# Altium footprint library TIDA-014851.PcbLib: 32 footprints (part 1 of 2)
Each footprint in its own frame and in the unit in brackets; x right, y up, seen from the top. Pads: shape width x height; smd on the part's side, far side on the other; paste and mask are expansions set on the pad; w line width, h text height; cw(c..) or ccw(c..) is an arc to the next point about the centre after c.
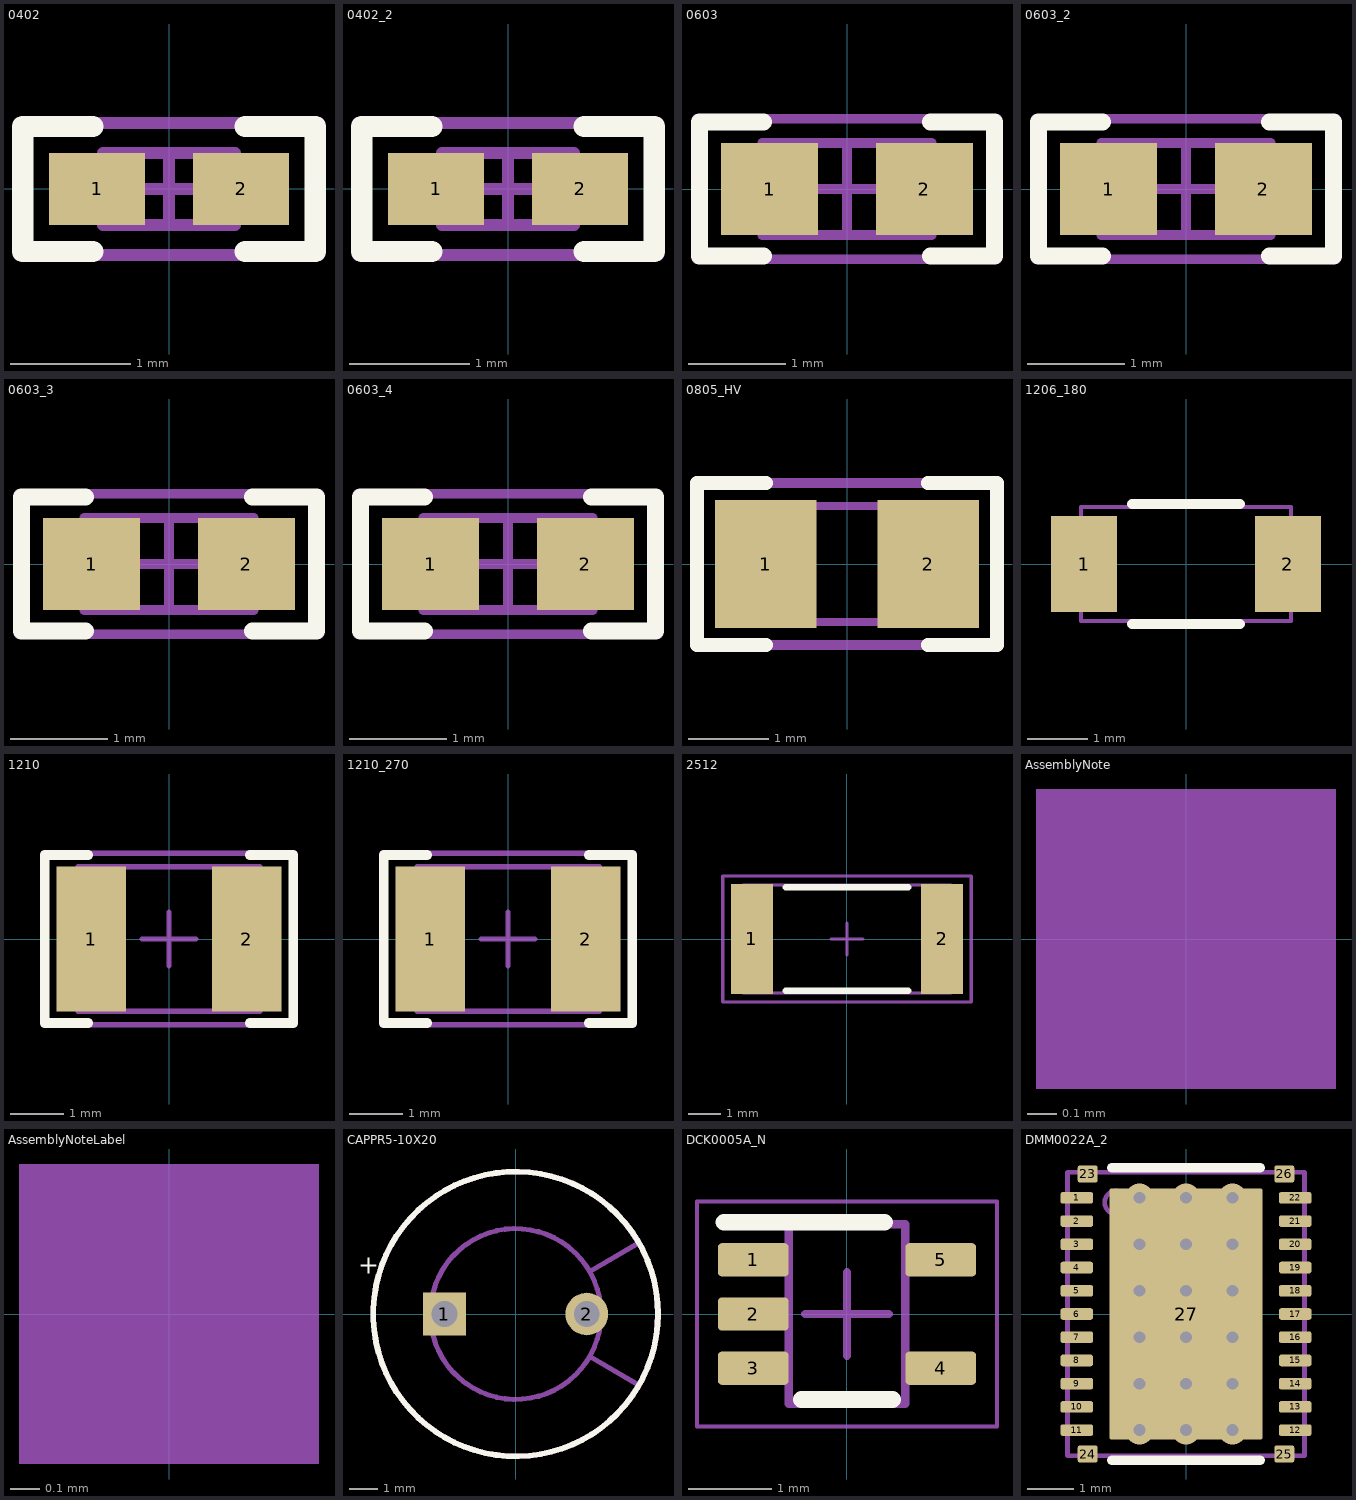
[diagram p0: the footprints below, top view; thin cyan lines are the x and y axes]

## 0402 [mm] "0402 from SM-752 data"
height 0.6
pads (2):
  rect 0.8x0.6 smd: 1(-0.6,0) 2(0.6,0)
Top Overlay:
  lines w0.178: -0.635,-0.521 -1.219,-0.521 -1.219,0.521 -0.635,0.521 ; 0.635,-0.521 1.219,-0.521 1.219,0.521 0.635,0.521
Mechanical 5:
  lines w0.1: -1.25,-0.55 1.25,-0.55 1.25,0.55 -1.25,0.55 -1.25,-0.55
  text ".Designator" at -0.635,-0.33 h0.64
Mechanical 13:
  lines w0.1: -0.35,-0.3 -0.35,0.3 ; 0.35,-0.3 0.35,0.3 ; -0.55,-0.3 -0.55,0.3 0.55,0.3 0.55,-0.3 -0.55,-0.3
Mechanical 15:
  lines w0.1: -0.3,0 0.3,0 ; 0,-0.3 0,0.3 ; -1.25,-0.55 -1.25,0.55 1.25,0.55 1.25,-0.55 -1.25,-0.55
3D body: height 0.6, standoff 0, extent -0.549,-0.299 -0.351,0.299
3D body: height 0.6, standoff 0, extent -0.349,-0.299 0.349,0.299
3D body: height 0.6, standoff 0, extent 0.351,-0.299 0.549,0.299

## 0402_2 [mm]
pads (2):
  rect 0.8x0.6 smd: 1(-0.6,0) 2(0.6,0)
Top Overlay:
  lines w0.178: -0.635,-0.521 -1.219,-0.521 -1.219,0.521 -0.635,0.521 ; 0.635,-0.521 1.219,-0.521 1.219,0.521 0.635,0.521
Mechanical 5:
  lines w0.1: -1.25,-0.55 1.25,-0.55 1.25,0.55 -1.25,0.55 -1.25,-0.55
  text ".Designator" at -0.762,-0.279 h0.64
Mechanical 13:
  lines w0.1: -0.35,-0.3 -0.35,0.3 ; 0.35,-0.3 0.35,0.3 ; -0.55,-0.3 -0.55,0.3 0.55,0.3 0.55,-0.3 -0.55,-0.3
Mechanical 15:
  lines w0.1: -0.3,0 0.3,0 ; 0,-0.3 0,0.3 ; -1.25,-0.55 -1.25,0.55 1.25,0.55 1.25,-0.55 -1.25,-0.55
3D body: height 0.6, standoff 0, extent -0.549,-0.299 -0.351,0.299
3D body: height 0.6, standoff 0, extent -0.349,-0.299 0.349,0.299
3D body: height 0.6, standoff 0, extent 0.351,-0.299 0.549,0.299

## 0603 [mm] "0603 from SM-752 data"
height 1
pads (2):
  rect 1x0.95 smd: 1(-0.8,0) 2(0.8,0)
Top Overlay:
  lines w0.178: -0.864,-0.691 -1.524,-0.691 -1.524,0.693 -0.864,0.693 ; 0.864,-0.691 1.524,-0.691 1.524,0.693 0.864,0.693
Mechanical 5:
  lines w0.1: -1.55,-0.725 1.55,-0.725 1.55,0.725 -1.55,0.725 -1.55,-0.725
  text ".Designator" at -0.584,-0.305 h0.64
Mechanical 13:
  lines w0.1: -0.55,-0.475 -0.55,0.475 ; 0.55,-0.475 0.55,0.475 ; -0.875,-0.475 -0.875,0.475 0.875,0.475 0.875,-0.475 -0.875,-0.475
Mechanical 15:
  lines w0.1: -0.475,0 0.475,0 ; 0,-0.475 0,0.475 ; -1.55,-0.725 -1.55,0.725 1.55,0.725 1.55,-0.725 -1.55,-0.725
3D body: height 1, standoff 0, extent 0.551,-0.474 0.874,0.474
3D body: height 1, standoff 0, extent -0.549,-0.474 0.549,0.474
3D body: height 1, standoff 0, extent -0.874,-0.474 -0.551,0.474

## 0603_2 [mm]
pads (2):
  rect 1x0.95 smd: 1(-0.8,0) 2(0.8,0)
Top Overlay:
  lines w0.178: -0.864,-0.691 -1.524,-0.691 -1.524,0.693 -0.864,0.693 ; 0.864,-0.691 1.524,-0.691 1.524,0.693 0.864,0.693
Mechanical 5:
  lines w0.1: -1.55,-0.725 1.55,-0.725 1.55,0.725 -1.55,0.725 -1.55,-0.725
  text ".Designator" at 0.737,0.33 h0.64
Mechanical 13:
  lines w0.1: -0.55,-0.475 -0.55,0.475 ; 0.55,-0.475 0.55,0.475 ; -0.875,-0.475 -0.875,0.475 0.875,0.475 0.875,-0.475 -0.875,-0.475
Mechanical 15:
  lines w0.1: -0.475,0 0.475,0 ; 0,-0.475 0,0.475 ; -1.55,-0.725 -1.55,0.725 1.55,0.725 1.55,-0.725 -1.55,-0.725
3D body: height 1, standoff 0, extent 0.551,-0.474 0.874,0.474
3D body: height 1, standoff 0, extent -0.549,-0.474 0.549,0.474
3D body: height 1, standoff 0, extent -0.874,-0.474 -0.551,0.474

## 0603_3 [mm]
pads (2):
  rect 1x0.95 smd: 1(-0.8,0) 2(0.8,0)
Top Overlay:
  lines w0.178: -0.864,-0.691 -1.524,-0.691 -1.524,0.693 -0.864,0.693 ; 0.864,-0.691 1.524,-0.691 1.524,0.693 0.864,0.693
Mechanical 5:
  lines w0.1: -1.55,-0.725 -1.55,0.725 1.55,0.725 1.55,-0.725 -1.55,-0.725
  text ".Designator" at -0.991,-0.33 h0.64
Mechanical 13:
  lines w0.1: -0.55,-0.475 -0.55,0.475 ; 0.55,-0.475 0.55,0.475 ; -0.875,-0.475 0.875,-0.475 0.875,0.475 -0.875,0.475 -0.875,-0.475
Mechanical 15:
  lines w0.1: -0.475,0 0.475,0 ; 0,-0.475 0,0.475 ; -1.55,-0.725 1.55,-0.725 1.55,0.725 -1.55,0.725 -1.55,-0.725
3D body: height 1, standoff 0, extent -0.874,-0.474 -0.551,0.474
3D body: height 1, standoff 0, extent -0.549,-0.474 0.549,0.474
3D body: height 1, standoff 0, extent 0.551,-0.474 0.874,0.474

## 0603_4 [mm]
pads (2):
  rect 1x0.95 smd: 1(-0.8,0) 2(0.8,0)
Top Overlay:
  lines w0.178: -0.864,-0.691 -1.524,-0.691 -1.524,0.693 -0.864,0.693 ; 0.864,-0.691 1.524,-0.691 1.524,0.693 0.864,0.693
Mechanical 5:
  lines w0.1: -1.55,-0.725 -1.55,0.725 1.55,0.725 1.55,-0.725 -1.55,-0.725
  text ".Designator" at 0.991,0.33 h0.64
Mechanical 13:
  lines w0.1: -0.55,-0.475 -0.55,0.475 ; 0.55,-0.475 0.55,0.475 ; -0.875,-0.475 0.875,-0.475 0.875,0.475 -0.875,0.475 -0.875,-0.475
Mechanical 15:
  lines w0.1: -0.475,0 0.475,0 ; 0,-0.475 0,0.475 ; -1.55,-0.725 1.55,-0.725 1.55,0.725 -1.55,0.725 -1.55,-0.725
3D body: height 1, standoff 0, extent -0.874,-0.474 -0.551,0.474
3D body: height 1, standoff 0, extent -0.549,-0.474 0.549,0.474
3D body: height 1, standoff 0, extent 0.551,-0.474 0.874,0.474

## 0805_HV [mil] "0805 with 30mil clearance between pads"
height 57.09
pads (2):
  rect 50x63 smd: 1(-40,0) 2(40,0)
Top Overlay:
  lines w7: -40,-40 -74,-40 -74,0 -74,40 -40,40 ; 40,-40 74,-40 74,0 74,40 40,40
Mechanical 5:
  lines w5: -74,-40 -74,40 74,40 74,-40 -74,-40
  text ".Designator" at 187,28 h25
Mechanical 13:
  lines w3.94: -25.59,-28.54 -25.59,28.54 ; 25.59,-28.54 25.59,28.54 ; -43.31,-28.54 -43.31,28.54 43.31,28.54 43.31,-28.54 -43.31,-28.54
3D body: height 57.09, standoff 0, extent 25.61,-28.52 43.29,28.52
3D body: height 57.09, standoff 0, extent -25.57,-28.52 25.57,28.52
3D body: height 57.09, standoff 0, extent -43.29,-28.52 -25.61,28.52

## 1206_180 [mm] "1206_180"
height 1.8
pads (2):
  rect 1.1x1.6 smd: 1(-1.7,0) 2(1.7,0)
Top Overlay:
  lines w0.17: -0.9,-1 0.9,-1 ; -0.9,1 0.9,1
Mechanical 5:
  lines w0.07: -1.75,-0.95 1.75,-0.95 1.75,0.95 -1.75,0.95 -1.75,-0.95
  text ".Designator" at -4.19,-0.669 h0.64
3D body: height 1.8, standoff 0, extent -1.749,-0.949 -1.301,0.949
3D body: height 1.8, standoff 0, extent -1.299,-0.949 1.299,0.949
3D body: height 1.8, standoff 0, extent 1.301,-0.949 1.749,0.949

## 1210 [mm] "1210 from SM-752 data"
height 1.35
pads (2):
  rect 1.3x2.7 smd: 1(-1.45,0) 2(1.45,0)
Top Overlay:
  lines w0.178: -1.511,-1.568 -2.316,-1.568 -2.316,1.568 -1.511,1.568 ; 1.511,-1.568 2.316,-1.568 2.316,1.568 1.511,1.568
Mechanical 5:
  lines w0.1: -1.7,-1.35 1.7,-1.35 1.7,1.35 -1.7,1.35 -1.7,-1.35
  text ".Designator" at -0.584,-0.203 h0.64
Mechanical 13:
  lines w0.1: -1.2,-1.35 -1.2,1.35 ; 1.2,-1.35 1.2,1.35 ; -1.7,-1.35 -1.7,1.35 1.7,1.35 1.7,-1.35 -1.7,-1.35
Mechanical 15:
  lines w0.1: -0.5,0 0.5,0 ; 0,-0.5 0,0.5 ; -2.35,-1.6 -2.35,1.6 2.35,1.6 2.35,-1.6 -2.35,-1.6
3D body: height 1.35, standoff 0, extent -1.699,-1.349 -1.201,1.349
3D body: height 1.35, standoff 0, extent -1.199,-1.349 1.199,1.349
3D body: height 1.35, standoff 0, extent 1.201,-1.349 1.699,1.349

## 1210_270 [mm] "1210"
height 2.7
pads (2):
  rect 1.3x2.7 smd: 1(-1.45,0) 2(1.45,0)
Top Overlay:
  lines w0.178: -1.511,-1.568 -2.316,-1.568 -2.316,1.568 -1.511,1.568 ; 1.511,-1.568 2.316,-1.568 2.316,1.568 1.511,1.568
Mechanical 5:
  lines w0.1: -1.7,-1.35 -1.7,1.35 1.7,1.35 1.7,-1.35 -1.7,-1.35
  text ".Designator" at 0.406,-0.559 h0.64
Mechanical 13:
  lines w0.1: -1.2,-1.35 -1.2,1.35 ; 1.2,-1.35 1.2,1.35 ; -1.7,-1.35 1.7,-1.35 1.7,1.35 -1.7,1.35 -1.7,-1.35
Mechanical 15:
  lines w0.1: -0.5,0 0.5,0 ; 0,-0.5 0,0.5 ; -2.35,-1.6 2.35,-1.6 2.35,1.6 -2.35,1.6 -2.35,-1.6
3D body: height 2.7, standoff 0, extent 1.201,-1.349 1.699,1.349
3D body: height 2.7, standoff 0, extent -1.199,-1.349 1.199,1.349
3D body: height 2.7, standoff 0, extent -1.699,-1.349 -1.201,1.349

## 2512 [mm] "Chip Resistor, Body 6.3x3.2mm, IPC Medium Density"
height 0.71
pads (2):
  rect 1.3x3.4 smd: 1(-2.95,0) 2(2.95,0)
Top Overlay:
  lines w0.2: -1.9,-1.6 1.9,-1.6 ; -1.9,1.6 1.9,1.6
Mechanical 5:
  lines w0.1: -3.225,-1.675 -3.225,1.675 3.225,1.675 3.225,-1.675 -3.225,-1.675
  text ".Designator" at -0.678,-0.491 h0.64
Mechanical 13:
  lines w0.1: -2.463,-1.675 -2.463,1.675 ; 2.463,-1.675 2.463,1.675 ; -3.225,-1.675 -3.225,1.675 3.225,1.675 3.225,-1.675 -3.225,-1.675
Mechanical 15:
  lines w0.1: -0.5,0 0.5,0 ; 0,-0.5 0,0.5 ; -3.85,-1.95 -3.85,1.95 3.85,1.95 3.85,-1.95 -3.85,-1.95
3D body: height 0.71, standoff 0, extent 2.464,-1.674 3.224,1.674
3D body: height 0.71, standoff 0, extent -2.462,-1.674 2.462,1.674
3D body: height 0.71, standoff 0, extent -3.224,-1.674 -2.464,1.674

## AssemblyNote [mm] "Assembly Note"
Mechanical 5:
  rectangle: -0.508,-0.508 0.508,0.508
  text ".Designator" at -4.191,-0.508 h0.64
  text ".Comment" at 1.143,-0.508 h0.64

## AssemblyNoteLabel [mm] "Assembly Note for PCB Labels"
height 8.382
Mechanical 5:
  rectangle: -0.508,-0.508 0.508,0.508
  text ".Designator" at -4.191,-0.508 h0.64
  text "Install label in silkscreened box after final wash.  Text shall be 8 pt font.  Text shall be per the Label Table in the PDF schematic." at 1.143,-0.508 h0.64

## CAPPR5-10X20 [mm] "Capacitor, Electrolytic, Radial; Body 10 x 20 mm (Dia.xH typ); Pin Spacing 5 mm (typ)"
height 22
pads (2):
  rect 1.5x1.5 hole 0.9: 1(-2.5,0)
  round 1.5 hole 0.9: 2(2.5,0)
Top Overlay:
  circle w0.2: c0,0 r5
  text "+" at -5.537,1.422 h0.64
Mechanical 5:
  circle w0.2: c0,0 r5
  text "+" at -3.759,-4.572 h0.64
  text ".Designator" at 0.711,0.965 h0.64
Mechanical 13:
  circle w0.178: c2.5,0 r0.3
  circle w0.178: c-2.5,0 r0.3
  circle w0.178: c0,0 r3
  lines w0.178: 2.623,-1.5 4.33,-2.5 cw(c0,0) 4.33,2.5 ; 2.623,1.5 4.33,2.5
3D body: height 1, standoff -2.54, extent 2.201,-0.299 2.799,0.299
3D body: height 1, standoff -2.54, extent -2.799,-0.299 -2.201,0.299
3D body: height 22, standoff 0, extent -2.999,-2.999 2.999,2.999
3D body: height 22, standoff 0, extent -5,-5 4.329,5
3D body: height 22, standoff 0, extent 2.597,-2.5 5.001,2.5

## DCK0005A_N [mm] "SOT353, 5-Leads, Body 2x1.3mm, Pitch 0.65mm, Lead Span 2.1mm, IPC Medium Density"
height 1.1
pads (5):
  rrect25% 0.85x0.4 smd: 1(-1.125,0.65) 2(-1.125,0) 3(-1.125,-0.65) 4(1.125,-0.65) 5(1.125,0.65)
Top Overlay:
  lines w0.2: -1.475,1.1 0.45,1.1 ; -0.55,-1.025 0.55,-1.025
Mechanical 5:
  lines w0.1: -0.7,-1.075 -0.7,1.075 0.7,1.075 0.7,-1.075 -0.7,-1.075
  lines w0.127: -0.865,0.762 -0.853,0.762 ; -0.711,-0.763 -0.853,-0.763 -0.865,-0.763 -0.959,-0.763 -1.143,-0.763 -1.143,-0.538 -0.959,-0.538 -0.865,-0.538 -0.853,-0.538 -0.711,-0.538 ; -0.711,-0.113 -0.853,-0.113 -0.865,-0.113 -0.959,-0.113 -1.143,-0.113 -1.143,0.112 -0.959,0.112 -0.865,0.112 -0.853,0.112 -0.711,0.112 ; -0.711,0.537 -0.853,0.537 -0.865,0.537 -0.959,0.537 -1.143,0.537 -1.143,0.762 -0.959,0.762 -0.711,0.762 ; 0.711,-0.763 0.847,-0.763 0.859,-0.763 0.953,-0.763 1.137,-0.763 1.137,-0.538 0.953,-0.538 0.859,-0.538 0.847,-0.538 0.711,-0.538 ; 0.711,0.537 0.847,0.537 0.859,0.537 0.953,0.537 1.137,0.537 1.137,0.762 0.953,0.762 0.859,0.762 0.847,0.762 0.711,0.762
  text ".Designator" at 0.33,-0.838 h0.64
Mechanical 15:
  lines w0.05: -1.8,-1.35 -1.8,1.35 1.8,1.35 1.8,-1.35 -1.8,-1.35
  lines w0.1: -0.5,0 0.5,0 ; 0,-0.5 0,0.5
3D body "DCK0005A.stp": height 0.95, standoff 0, extent -1.14,-1 1.14,1

## DMM0022A_2 [mm] "SON, 27-Leads, Body 5x6mm, Pitch 0.5mm"
height 1.05
pads (35):
  rrect40% 0.7x0.25 smd: 1(-2.35,2.5) 2(-2.35,2) 21(2.35,2) 22(2.35,2.5)
  rrect40% 0.7x0.25 smd mask+0: 3(-2.35,1.5) 4(-2.35,1) 5(-2.35,0.5) 6(-2.35,0) 7(-2.35,-0.5) 8(-2.35,-1) 9(-2.35,-1.5) 10(-2.35,-2) 11(-2.35,-2.5) 12(2.35,-2.5) 13(2.35,-2) 14(2.35,-1.5) 15(2.35,-1) 16(2.35,-0.5) 17(2.35,0) 18(2.35,0.5) 19(2.35,1) 20(2.35,1.5)
  rrect27% 0.43x0.375 smd: 23(-2.115,3.013) 24(-2.115,-3.013) 25(2.115,-3.013) 26(2.115,3.013)
  rrect3% 3.3x5.4 smd paste-1.65: 27(0,0)
  rrect50% 1.41x1.12 on Top Paste: ""(-0.805,-1.98) ""(-0.805,-0.66) ""(-0.805,0.66) ""(-0.805,1.98) ""(0.805,-1.98) ""(0.805,-0.66) ""(0.805,0.66) ""(0.805,1.98)
via 1,0.501 diameter 0.61 hole 0.254
via 1,1.501 diameter 0.61 hole 0.254
via 1,-1.499 diameter 0.61 hole 0.254
via 1,-0.499 diameter 0.61 hole 0.254
via 1,-2.499 diameter 0.61 hole 0.254
via 0,0.501 diameter 0.61 hole 0.254
via 0,1.501 diameter 0.61 hole 0.254
via 0,-1.499 diameter 0.61 hole 0.254
via 0,-0.499 diameter 0.61 hole 0.254
via 0,-2.499 diameter 0.61 hole 0.254
via -1,-2.499 diameter 0.61 hole 0.254
via -1,-0.499 diameter 0.61 hole 0.254
via -1,-1.499 diameter 0.61 hole 0.254
via -1,1.501 diameter 0.61 hole 0.254
via -1,0.501 diameter 0.61 hole 0.254
via -1,2.501 diameter 0.61 hole 0.254
via 1,2.501 diameter 0.61 hole 0.254
via 0,2.501 diameter 0.61 hole 0.254
Top Overlay:
  lines w0.2: -1.6,-3.15 1.6,-3.15 ; -1.6,3.15 1.6,3.15
Mechanical 5:
  circle w0.1: c-1.5,2.4 r0.25
  lines w0.1: -2.55,-3.05 2.55,-3.05 2.55,3.05 -2.55,3.05 -2.55,-3.05
  text ".Designator" at 0.059,-0.643 h0.64
3D body: height 1.05, standoff 0, extent -2.55,-3.05 2.55,3.05
3D body: height 1.05, standoff 1.05, extent -1.749,2.151 -1.251,2.649